# EAGLE library part S6B-EH (library con-jst-eh)
JST EH series header 2.50mm pitch disconnectable crimp style connectors, horizontal (side entry type), 6 pins
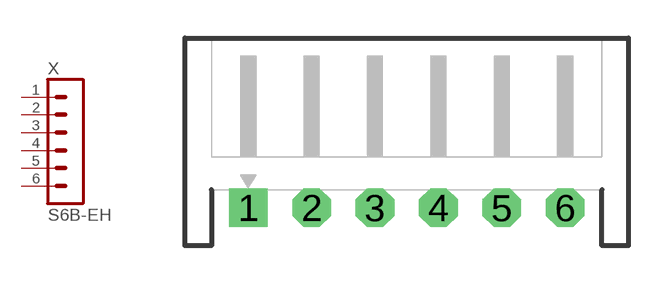
[diagram p10: symbol with the pads of S6B-EH; footprint S6B-EH]

Designator prefix X

## S6B-EH  [S6B-EH]
1  1  pas
2  2  pas
3  3  pas
4  4  pas
5  5  pas
6  6  pas

## Footprint S6B-EH (pad centres in mm)
JST EH series header 2.50mm pitch disconnectable crimp style connectors, horizontal (side entry type), 6 pins
drill 0.9 pad 1.524 square: 1 -6.25,0
drill 0.9 pad 1.524 octagon: 2 -3.75,0; 3 -1.25,0; 4 1.25,0; 5 3.75,0; 6 6.25,0